# Altium footprint library Footprint.PcbLib: 18 footprints (part 2 of 2)
Each footprint in its own frame and in the unit in brackets; x right, y up, seen from the top. Pads: shape width x height; smd on the part's side, far side on the other; paste and mask are expansions set on the pad; w line width, h text height; cw(c..) or ccw(c..) is an arc to the next point about the centre after c.
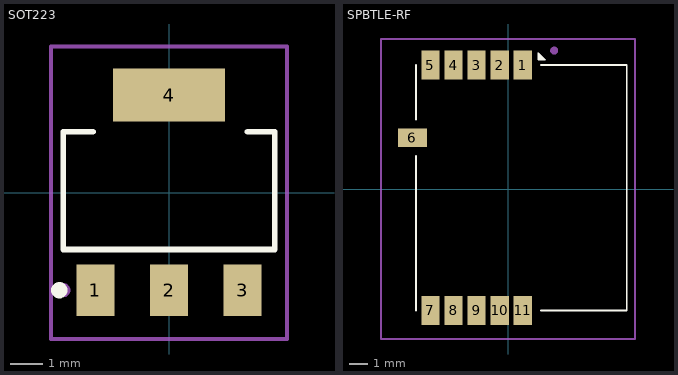
[diagram p1: the footprints below, top view; thin cyan lines are the x and y axes]

## SOT223 [mil]
pads (4):
  rect 47x63 smd paste-1.5 mask+1: 1(-90.55,-120) 2(0,-120) 3(90.55,-120)
  rect 138x65 smd paste-1.5 mask+1: 4(0,120)
Top Overlay:
  circle w10: c-135,-120 r5
  lines w7: -93.55,75 -130,75 -130,-70 130,-70 130,75 96.45,75
Mechanical 15:
  circle w10: c-130,-120 r3.59
  lines w5: -145,-180 145,-180 145,180 -145,180 -145,-180
  text ".Designator" at -110,-10 h35
3D body "User Library-SOT-223-2.STEP": height 73.15, standoff -1.65, extent -131.29,-141.66 132.49,141.97

## SPBTLE-RF [mm] "BL Module ST SPBTLE-RF"
pads (11):
  rect 1x1.6 smd: 1(0.813,6.82) 2(-0.457,6.82) 3(-1.727,6.82) 4(-2.997,6.82) 5(-4.267,6.82) 7(-4.267,-6.68) 8(-2.997,-6.68) 9(-1.727,-6.68) 10(-0.457,-6.68) 11(0.813,-6.68)
  rect 1.6x1 smd: 6(-5.267,2.82)
Top Overlay:
  lines w0.05: 1.702,7.277 1.702,7.328 ; 1.727,7.175 1.676,7.15 1.905,7.15 1.702,7.328 ; 1.727,7.226 1.753,7.175 1.778,7.252 1.778,7.15 ; 1.702,7.328 1.727,7.404 1.981,7.125 1.702,7.379 1.702,7.455 2.057,7.125 ; 2.057,7.125 1.676,7.125 1.676,7.506 2.057,7.125
  lines w0.1: -5.067,-6.68 -5.067,1.82 ; -5.067,3.82 -5.067,6.82 ; 1.702,7.277 1.702,7.226 1.778,7.15 1.905,7.15 1.88,7.15 1.778,7.252 ; 1.813,-6.68 6.533,-6.68 6.533,6.82 1.813,6.82
Mechanical 15:
  circle w0.254: c2.54,7.62 r0.091
  lines w0.127: -6.985,-8.255 6.985,-8.255 6.985,8.255 -6.985,8.255 -6.985,-8.255
  text ".Designator" at -3.81,-0.635 h0.89
3D body: height 1.7, standoff 0.9, extent 4.826,3.01 6.121,5.499
3D body: height 1.7, standoff 0.9, extent 4.826,2.375 6.121,3.01
3D body: height 1.7, standoff 0.9, extent 4.826,5.499 6.121,6.185
3D body: height 2.1, standoff 0.9, extent -4.851,-5.753 1.372,5.88
3D body: height 0.9, standoff 0.1, extent -5.08,-6.693 6.528,6.845